# Altium schematic symbol library 74HC14PW,112.SchLib: 1 symbol
Pins are listed as number, name and electrical type; pins without a type are passive.

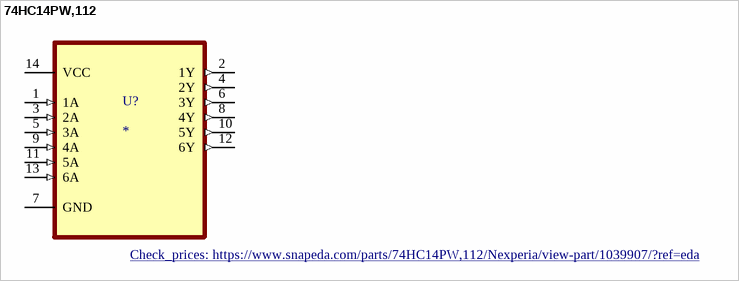
[diagram p0: symbol 74HC14PW,112]

## 74HC14PW,112
designator U?
Inverter IC 6 Channel Schmitt Trigger 14-TSSOP; MP: 74HC14PW,112; MF: Nexperia; Purchase-URL: https://pricing.snapeda.com/search/part/74HC14PW,112/?ref=eda; Value: *; Package: TSSOP14-14 Nexperia USA Inc.; Price: None; SnapEDA_Link: https://www.snapeda.com/parts/74HC14PW,112/Nexperia/view-part/1039907/?ref=snap; Availability: Good; Check_prices: https://www.snapeda.com/parts/74HC14PW,112/Nexperia/view-part/1039907/?ref=eda
footprint SOP65P640X110-14N
pins: 1 1A (in), 2 1Y (out), 3 2A (in), 4 2Y (out), 5 3A (in), 6 3Y (out), 7 GND, 8 4Y (out), 9 4A (in), 10 5Y (out), 11 5A (in), 12 6Y (out), 13 6A (in), 14 VCC (power)